# Altium footprint library RC_SMD_3D.PcbLib: 33 footprints (part 2 of 3)
Each footprint in its own frame and in the unit in brackets; x right, y up, seen from the top. Pads: shape width x height; smd on the part's side, far side on the other; paste and mask are expansions set on the pad; w line width, h text height; cw(c..) or ccw(c..) is an arc to the next point about the centre after c.
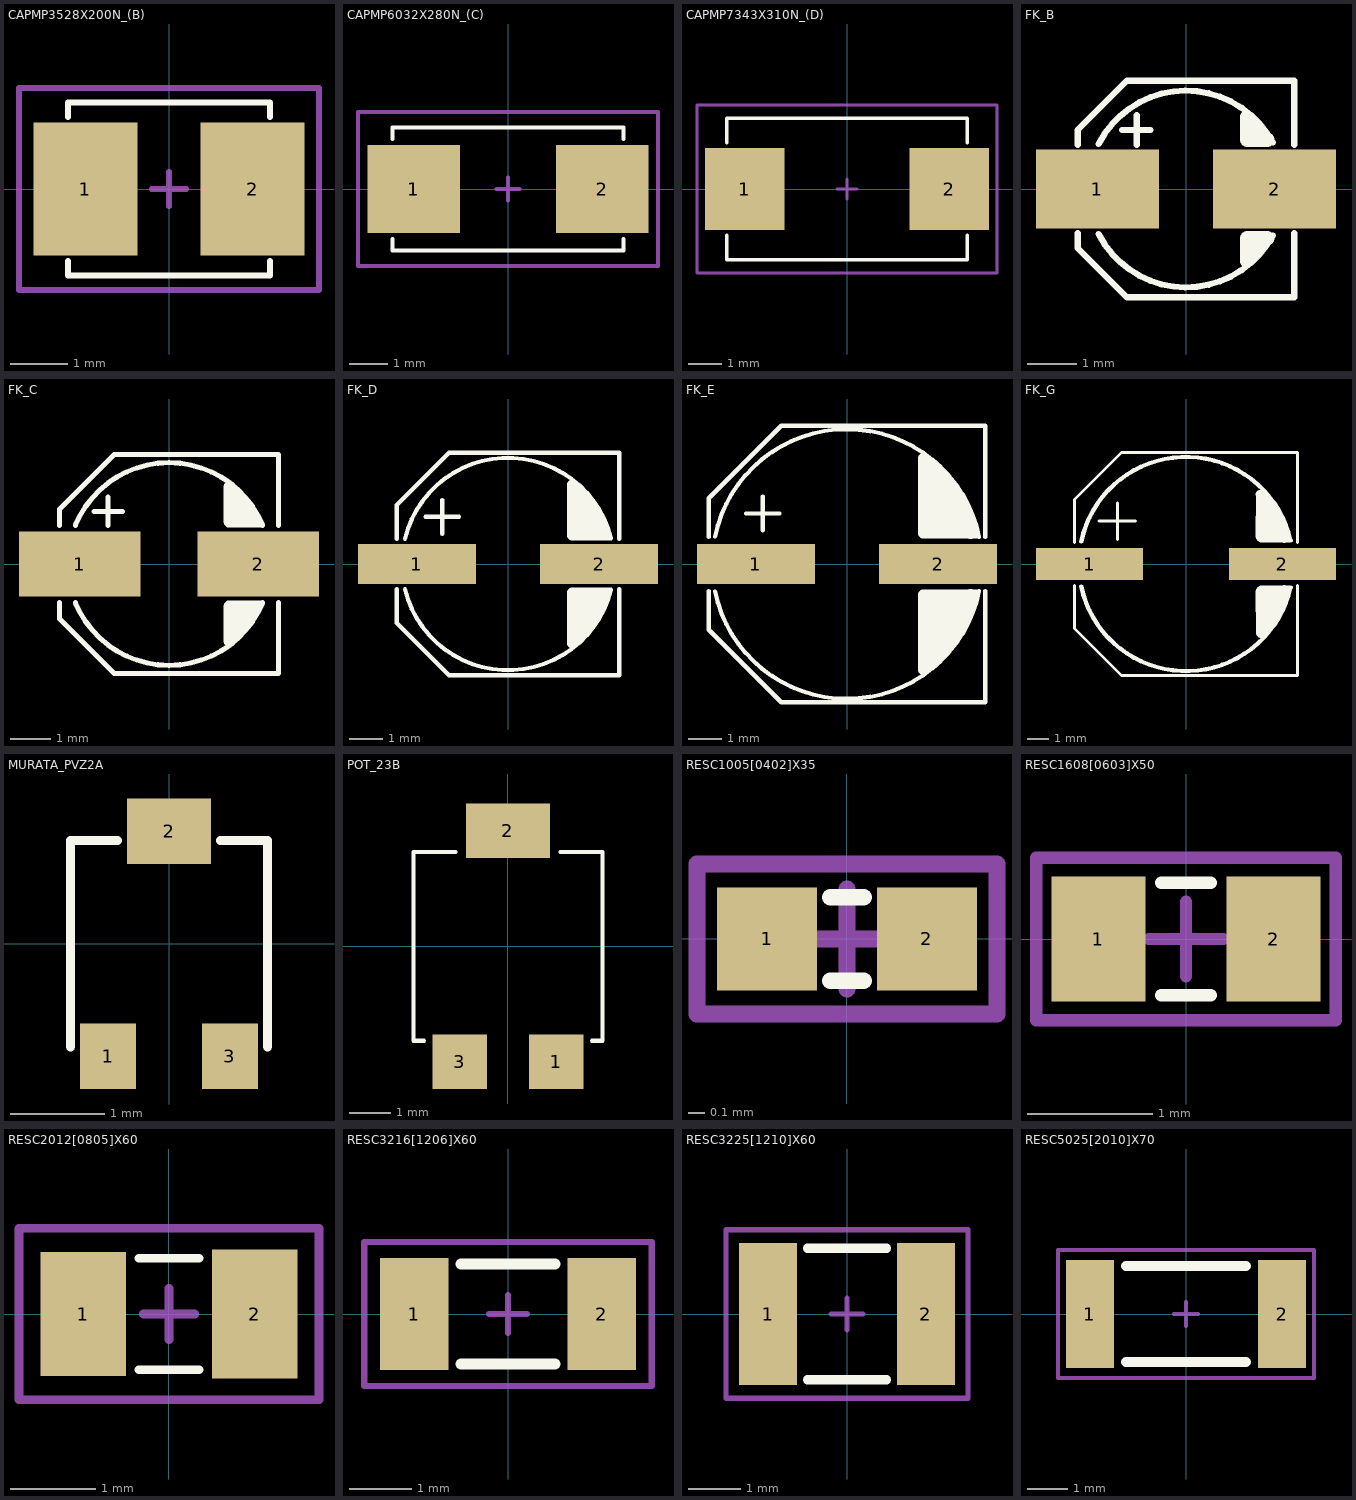
[diagram p1: the footprints below, top view; thin cyan lines are the x and y axes]

## CAPMP3528X200N_(B) [mm] "Capacitor polarized; 3.2x2.8mm"
height 2
pads (2):
  rect 1.8x2.3 smd: 1(-1.45,0) 2(1.45,0)
Top Overlay:
  lines w0.1: -1.75,-1.25 -1.75,-1.5 1.75,-1.5 1.75,-1.25 ; -1.75,1.25 -1.75,1.5 1.75,1.5 1.75,1.25
Courtyard (15):
  lines w0.1: -0.3,0 0.3,0 ; 0,-0.3 0,0.3 ; -2.6,-1.75 -2.6,1.75 2.6,1.75 2.6,-1.75 -2.6,-1.75
3D body: height 2.01, standoff 0.1, extent -1.65,-1.51 -1,-1.45
3D body: height 2.01, standoff 0.1, extent -1.65,1.448 -1,1.51
3D body: height 2.01, standoff 2, extent -1.65,-1.5 -1,1.5
3D body: height 0.1, standoff 0, extent -1.85,-1.1 -0.85,1.1
3D body: height 2, standoff 0.1, extent -1.75,-1.5 1.75,1.5
3D body: height 1, standoff 0, extent -1.85,-1.1 -1.75,1.1
3D body: height 0.1, standoff 0, extent 0.85,-1.1 1.85,1.1
3D body: height 1, standoff 0, extent 1.75,-1.1 1.85,1.1
3D body: height 0.1, standoff 0.05, extent -0.7,-1.5 0.7,1.5

## CAPMP6032X280N_(C) [mm] "Capacitor polarized; 6.0x3.2mm"
height 2.8
pads (2):
  rect 2.4x2.3 smd: 1(-2.45,0) 2(2.45,0)
Top Overlay:
  lines w0.1: -3,-1.3 -3,-1.6 3,-1.6 3,-1.3 ; -3,1.3 -3,1.6 3,1.6 3,1.3
Courtyard (15):
  lines w0.1: -0.3,0 0.3,0 ; 0,-0.3 0,0.3 ; -3.9,-2 3.9,-2 3.9,2 -3.9,2 -3.9,-2
3D body: height 0.1, standoff 0.05, extent -1.7,-1.6 1.7,1.6
3D body: height 1.4, standoff 0, extent 3,-1.1 3.1,1.1
3D body: height 0.1, standoff 0, extent 1.9,-1.1 3.1,1.1
3D body: height 1.4, standoff 0, extent -3.1,-1.1 -3,1.1
3D body: height 2.8, standoff 0.1, extent -3,-1.6 3,1.6
3D body: height 0.1, standoff 0, extent -3.1,-1.1 -1.9,1.1
3D body: height 2.81, standoff 2.8, extent -2.9,-1.6 -2.1,1.6
3D body: height 2.81, standoff 0.1, extent -2.9,1.538 -2.1,1.61
3D body: height 2.81, standoff 0.1, extent -2.9,-1.61 -2.1,-1.54

## CAPMP7343X310N_(D) [mm] "Capacitor polarized; 7.3x4.3mm"
height 3.1
pads (2):
  rect 2.4x2.5 smd: 1(-3.1,0) 2(3.1,0)
Top Overlay:
  lines w0.1: -3.65,-1.4 -3.65,-2.15 3.65,-2.15 3.65,-1.4 ; -3.65,1.4 -3.65,2.15 3.65,2.15 3.65,1.4
Courtyard (15):
  lines w0.1: -0.3,0 0.3,0 ; 0,-0.3 0,0.3 ; -4.55,-2.55 -4.55,2.55 4.55,2.55 4.55,-2.55 -4.55,-2.55
3D body: height 0.1, standoff 0.05, extent -2,-2.15 2,2.15
3D body: height 3.11, standoff 0.1, extent -3.55,-2.16 -2.6,-2.08
3D body: height 3.11, standoff 0.1, extent -3.55,2.078 -2.6,2.16
3D body: height 3.11, standoff 3.1, extent -3.55,-2.15 -2.6,2.15
3D body: height 0.1, standoff 0, extent -3.75,-1.2 -2.25,1.2
3D body: height 3.1, standoff 0.1, extent -3.65,-2.15 3.65,2.15
3D body: height 1.5, standoff 0, extent -3.75,-1.2 -3.65,1.2
3D body: height 0.1, standoff 0, extent 2.25,-1.2 3.75,1.2
3D body: height 1.5, standoff 0, extent 3.65,-1.2 3.75,1.2

## FK_B [mm] "Panasonic FK_V, Case B, Dia 4x5,8mm"
height 5.8
pads (2):
  rect 2.5x1.6 smd: 1(-1.8,0) 2(1.8,0)
Top Overlay:
  lines w0.125: -2.2,-0.9 -2.2,-1.2 -1.2,-2.2 2.2,-2.2 2.2,-0.9 ; -2.2,0.9 -2.2,1.2 -1.2,2.2 2.2,2.2 2.2,0.9 ; -1.777,-0.917 ccw(c0,0) 1.763,-0.944 ; -1.777,0.917 cw(c0,0) 1.763,0.944 ; -1.3,1.2 -0.725,1.2 ; -1,0.9 -1,1.5
  lines w0.254: 1.221,-1.47 ccw(c0,0) 1.639,-0.983 ; 1.221,1.47 cw(c0,0) 1.639,0.983
  lines w0.3: 1.25,-1.425 1.25,-1 1.65,-1 ; 1.25,1.425 1.25,1 1.65,1
3D body: height 0.1, standoff 0, extent -2.55,-0.35 -2.2,0.35
3D body: height 0.1, standoff 0, extent 2.2,-0.35 2.55,0.35
3D body: height 5.8, standoff 0.3, extent -1.984,-1.992 2,2
3D body: height 0.3, standoff 0, extent -2.2,-2.2 2.2,2.2
3D body: height 5.81, standoff 5.8, extent 1.1,-1.6 1.956,1.7

## FK_C [mm] "Panasonic FK_V, Case C, Dia 5x5.8mm"
height 5.8
pads (2):
  rect 3x1.6 smd: 1(-2.2,0) 2(2.2,0)
Top Overlay:
  lines w0.1: 1.45,-0.954 2.311,-0.954 ; 1.45,0.954 2.311,0.954
  lines w0.125: -2.7,-0.95 -2.7,-1.35 -1.35,-2.7 ; -2.7,0.95 -2.7,1.35 -1.35,2.7 2.7,2.7 2.7,0.95 ; -2.311,-0.954 ccw(c0,0) 2.311,-0.954 ; -2.311,0.954 cw(c0,0) 2.311,0.954 ; -1.85,1.3 -1.15,1.3 ; -1.5,0.95 -1.5,1.65 ; 2.7,-0.95 2.7,-2.7 ; -1.35,-2.7 2.7,-2.7 ; -1.35,-2.7 2.7,-2.7
  lines w0.254: 1.518,-1.859 ccw(c0,0) 2.167,-1.032 ; 1.518,1.859 cw(c0,0) 2.167,1.032
  lines w0.3: 1.5,-1.9 1.5,-1.05 ; 1.5,1.05 1.5,1.9 ; 1.75,-1.45 1.75,-1.05 ; 1.75,1.05 1.75,1.45 ; 2,-1.15 2,-1.05 ; 2,1.05 2,1.15
3D body: height 5.81, standoff 5.8, extent 1.35,-2.1 2.511,2.1
3D body: height 0.3, standoff 0, extent -2.7,-2.7 2.7,2.7
3D body: height 5.8, standoff 0.3, extent -2.5,-2.5 2.48,2.49
3D body: height 0.1, standoff 0, extent -3.05,-0.35 -2.7,0.35
3D body: height 0.1, standoff 0, extent 2.7,-0.35 3.05,0.35

## FK_D [mm] "Panasonic FK_V, Case C, Dia 6,3x5,8mm"
height 5.8
pads (2):
  rect 3.5x1.2 smd: 1(-2.7,0) 2(2.7,0)
Top Overlay:
  lines w0.1: 1.9,-0.75 3.056,-0.75 ; 1.9,0.75 3.056,0.75
  lines w0.125: -3.3,-0.75 -3.3,-1.75 -1.75,-3.3 3.3,-3.3 3.3,-0.75 ; -3.3,0.75 -3.3,1.75 -1.75,3.3 3.3,3.3 3.3,0.75 ; -3.059,-0.752 ccw(c0,0) 3.056,-0.764 ; -3.059,0.752 cw(c0,0) 3.056,0.764 ; -2.45,1.4 -1.45,1.4 ; -1.95,0.9 -1.95,1.9
  lines w0.254: 1.898,-2.324 ccw(c0,0) 2.883,-0.831 ; 1.898,2.324 cw(c0,0) 2.883,0.831
  lines w0.3: 1.9,-2.35 1.9,-0.85 ; 1.9,0.85 1.9,2.35 ; 2.1,-2.05 2.1,-0.85 ; 2.1,0.85 2.1,2.05 ; 2.35,-1.7 2.35,-0.85 ; 2.35,0.85 2.35,1.7 ; 2.55,-1.45 2.55,-0.85 ; 2.55,0.85 2.55,1.45 ; 2.75,-1 2.75,-0.85 ; 2.75,0.85 2.75,1
3D body: height 5.81, standoff 5.8, extent 1.75,-2.65 3.11,2.6
3D body: height 5.8, standoff 0.3, extent -3.15,-3.15 3.125,3.138
3D body: height 0.3, standoff 0, extent -3.3,-3.3 3.3,3.3

## FK_E [mm] "Panasonic FK_V, Case E, Dia 8x6,2mm"
height 6.2
pads (2):
  rect 3.5x1.2 smd: 1(-2.7,0) 2(2.7,0)
Top Overlay:
  lines w0.1: 2.25,-0.8 3.92,-0.8 ; 2.25,0.8 3.92,0.8
  lines w0.125: -4.1,-0.8 -4.1,-1.95 -1.95,-4.1 4.1,-4.1 4.1,-0.8 ; -4.1,0.8 -4.1,1.95 -1.95,4.1 4.1,4.1 4.1,0.8 ; -3.916,-0.814 ccw(c0,0) 3.919,-0.8 ; -3.916,0.814 cw(c0,0) 3.919,0.8 ; -3,1.5 -2,1.5 ; -2.5,1 -2.5,2
  lines w0.3: 2.25,-3.15 2.25,-0.9 ; 2.25,0.9 2.25,3.15 ; 2.5,-2.6 2.5,-0.9 ; 2.5,0.9 2.5,2.6 ; 2.75,-2.35 2.75,-0.9 ; 2.75,0.9 2.75,2.35 ; 2.95,-2.1 2.95,-0.9 ; 2.95,0.9 2.95,2.1 ; 3.15,-1.8 3.15,-0.9 ; 3.15,0.9 3.15,1.8 ; 3.35,-1.45 3.35,-0.9 ; 3.35,0.9 3.35,1.45
  lines w0.5: 2.404,-2.943 ccw(c0,0) 3.668,-0.991 ; 2.404,2.943 cw(c0,0) 3.668,0.991
3D body: height 6.2, standoff 0.3, extent -4,-3.984 3.968,4
3D body: height 0.3, standoff 0, extent -4.15,-4.15 4.15,4.15
3D body: height 6.21, standoff 6.2, extent 2.1,-3.45 4.012,3.4

## FK_G [mm] "Panasonic FK_V, Case G, Dia 10x10,2mm"
height 10.2
pads (2):
  rect 5x1.5 smd: 1(-4.5,0) 2(4.5,0)
Top Overlay:
  lines w0.125: -5.2,-1 -5.2,-3 -3,-5.2 5.2,-5.2 5.2,-1 ; -5.2,1 -5.2,3 -3,5.2 5.2,5.2 5.2,1
  lines w0.15: -4.05,2 -2.35,2 ; -3.2,1.15 -3.2,2.85
  lines w0.2: -4.889,-1.048 ccw(c0,0) 4.879,-1.095 ; -4.889,1.048 cw(c0,0) 4.879,1.095 ; 3.5,-1.098 4.889,-1.098 ; 3.5,1.098 4.889,1.098
  lines w0.4: 3.452,3.252 cw(c0,0) 4.591,1.187 ; 3.475,-3.227 ccw(c0,0) 4.591,-1.187
  lines w0.6: 3.55,-1.3 3.556,-3.175 ; 3.55,1.3 3.556,3.175 ; 4.05,-1.3 4.064,-2.489 ; 4.05,1.3 4.064,2.489 ; 4.55,-1.45 4.55,-1.3 ; 4.55,1.3 4.55,1.45
3D body: height 10.2, standoff 1, extent -4.915,-4.915 4.915,4.915
3D body: height 1, standoff 0, extent -5.207,-5.207 5.182,5.207
3D body: height 10.21, standoff 10.2, extent 3.275,-3.65 4.938,3.625

## MURATA_PVZ2A [mm] "Potentiometer 3pin"
height 0.8
pads (3):
  rect 0.6x0.7 smd: 1(-0.65,-1.2) 3(0.65,-1.2)
  rect 0.9x0.7 smd: 2(0,1.2)
Top Overlay:
  lines w0.1: -1.05,-1.1 -1.05,1.1 -0.55,1.1 ; 0.55,1.1 1.05,1.1 1.05,-1.1
3D body: height 0.4, standoff 0, extent 0.4,-1.3 0.9,-1.1
3D body: height 0.4, standoff 0, extent -0.9,-1.3 -0.4,-1.1
3D body: height 0.4, standoff 0, extent -0.4,1.1 0.4,1.3
3D body: height 0.8, standoff 0.5, extent -1.042,-1.048 1.05,1.048
3D body: height 0.5, standoff 0, extent -1.05,-1.1 1.05,1.1
3D body: height 0.81, standoff 0.5, extent -0.65,-0.2 0.65,0.2
3D body: height 0.81, standoff 0.5, extent -0.2,-0.65 0.2,0.65
3D body: height 0.81, standoff 0.8, extent -0.397,-0.399 0.4,0.399

## POT_23B [mm] "Potentiometer 4,5x4,5mm"
height 2.6
pads (3):
  rect 1.3x1.3 smd: 1(1.15,-2.75) 3(-1.15,-2.75)
  rect 2x1.3 smd: 2(0,2.75)
Top Overlay:
  lines w0.1: -2,-2.25 -2.25,-2.25 -2.25,2.25 -1.25,2.25 ; 1.25,2.25 2.25,2.25 2.25,-2.25 2,-2.25
3D body: height 1.2, standoff 1, extent -0.4,2.25 0.4,2.6
3D body: height 1.2, standoff 1, extent 0.75,-2.6 1.55,-2.25
3D body: height 1.2, standoff 1, extent -1.55,-2.6 -0.75,-2.25
3D body: height 1, standoff 0, extent 0.75,-2.6 1.55,-2.4
3D body: height 1, standoff 0, extent -1.55,-2.6 -0.75,-2.4
3D body: height 1, standoff 0, extent -0.4,2.4 0.4,2.6
3D body: height 0.2, standoff 0, extent -1.55,-3.1 -0.75,-2.6
3D body: height 0.2, standoff 0, extent 0.75,-3.1 1.55,-2.6
3D body: height 0.2, standoff 0, extent -0.6,2.4 0.6,3.1
3D body: height 2.6, standoff 0, extent -2.25,-2.25 2.25,2.25
3D body: height 2.61, standoff 2.6, extent -1.191,-1.198 1.2,1.198
3D body: height 2.62, standoff 2, extent -0.25,-1.2 0.25,1.2

## RESC1005[0402]X35 [mm] "Chip Resistor; 1x0.5mm"
height 0.35
pads (2):
  rect 0.6x0.62 smd: 1(-0.48,0) 2(0.48,0)
Top Overlay:
  lines w0.1: -0.1,-0.25 0.1,-0.25 ; -0.1,0.25 0.1,0.25
Courtyard (15):
  lines w0.1: -0.3,0 0.3,0 0,0 ; 0,-0.3 0,0.3 ; -0.9,-0.45 0.9,-0.45 0.9,0.45 -0.9,0.45 -0.9,-0.45
3D body: height 0.35, standoff 0, extent 0.3,-0.25 0.5,0.25
3D body: height 0.35, standoff 0, extent -0.5,-0.25 -0.3,0.25
3D body: height 0.35, standoff 0, extent -0.3,-0.25 0.3,0.25

## RESC1608[0603]X50 [mm] "Chip Resistor; 1.6x0.8mm"
height 0.5
pads (2):
  rect 0.75x1 smd: 1(-0.7,0) 2(0.7,0)
Top Overlay:
  lines w0.1: -0.2,-0.45 0.2,-0.45 ; -0.2,0.45 0.2,0.45
Courtyard (15):
  lines w0.1: -0.3,0 0.3,0 ; 0,-0.3 0,0.3 ; -1.2,-0.65 1.2,-0.65 1.2,0.65 -1.2,0.65 -1.2,-0.65
3D body: height 0.5, standoff 0, extent -0.8,-0.4 -0.45,0.4
3D body: height 0.5, standoff 0, extent 0.45,-0.4 0.8,0.4
3D body: height 0.5, standoff 0, extent -0.45,-0.4 0.45,0.4

## RESC2012[0805]X60 [mm] "Chip Resistor; 2.1x1.25mm"
height 0.6
pads (2):
  rect 1x1.45 smd: 1(-1,0)
  rect 1x1.5 smd: 2(1,0)
Top Overlay:
  lines w0.1: -0.35,-0.65 0.35,-0.65 ; -0.35,0.65 0.35,0.65
Courtyard (15):
  lines w0.1: -0.3,0 0.3,0 ; 0,-0.3 0,0.3 ; -1.75,-1 1.75,-1 1.75,1 -1.75,1 -1.75,-1
3D body: height 0.6, standoff 0, extent -1.05,-0.6 -0.6,0.6
3D body: height 0.6, standoff 0, extent 0.6,-0.6 1.05,0.6
3D body: height 0.6, standoff 0, extent -0.6,-0.6 0.6,0.6

## RESC3216[1206]X60 [mm] "Chip Resistor; 3.2x1.6mm"
height 0.6
pads (2):
  rect 1.1x1.8 smd: 1(-1.5,0) 2(1.5,0)
Top Overlay:
  lines w0.178: -0.75,-0.8 0.75,-0.8 ; -0.75,0.8 0.75,0.8
Courtyard (15):
  lines w0.1: -0.3,0 0.3,0 ; 0,-0.3 0,0.3 ; -2.3,-1.15 2.3,-1.15 2.3,1.15 -2.3,1.15 -2.3,-1.15
3D body: height 0.6, standoff 0, extent -1.6,-0.8 -1,0.8
3D body: height 0.6, standoff 0, extent 1,-0.8 1.6,0.8
3D body: height 0.6, standoff 0, extent -1,-0.8 1,0.8

## RESC3225[1210]X60 [mm] "Chip Resistor; 3.2x2.5 mm"
height 0.6
pads (2):
  rect 1.1x2.7 smd: 1(-1.5,0) 2(1.5,0)
Top Overlay:
  lines w0.178: -0.75,-1.25 0.75,-1.25 ; -0.75,1.25 0.75,1.25
Courtyard (15):
  lines w0.1: -0.3,0 0.3,0 ; 0,-0.3 0,0.3 ; -2.3,-1.6 -2.3,1.6 2.3,1.6 2.3,-1.6 -2.3,-1.6
3D body: height 0.6, standoff 0, extent -1.6,-1.25 -1,1.25
3D body: height 0.6, standoff 0, extent -1,-1.25 1,1.25
3D body: height 0.6, standoff 0, extent 1,-1.25 1.6,1.25

## RESC5025[2010]X70 [mm] "Chip Resistor; 5.0x2.5mm"
height 0.7
pads (2):
  rect 1.2x2.7 smd: 1(-2.4,0) 2(2.4,0)
Top Overlay:
  lines w0.254: -1.5,-1.2 1.5,-1.2 ; -1.5,1.2 1.5,1.2
Courtyard (15):
  lines w0.1: -0.3,0 0.3,0 ; 0,-0.3 0,0.3 ; -3.2,-1.6 3.2,-1.6 3.2,1.6 -3.2,1.6 -3.2,-1.6
3D body: height 0.7, standoff 0, extent -1.85,-1.25 1.85,1.25
3D body: height 0.7, standoff 0, extent -2.5,-1.25 -1.85,1.25
3D body: height 0.7, standoff 0, extent 1.85,-1.25 2.5,1.25